# EAGLE library part 6082 (library tubes_pmillett)
Octal dual triode, base 8BD (6SN7, 6SL7, 6AS7, etc.)
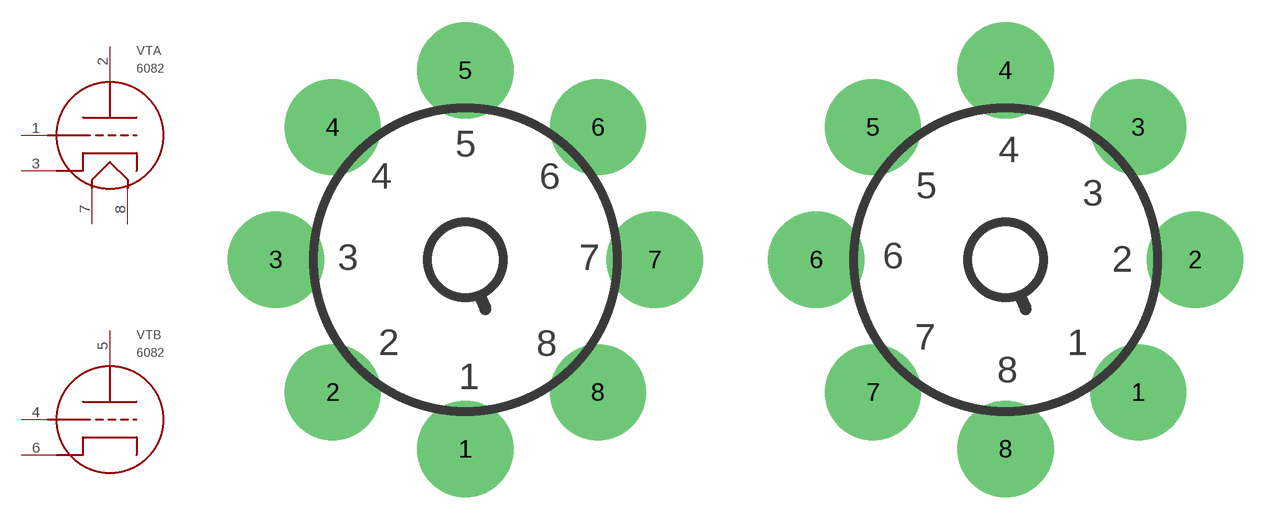
[diagram p42: symbol with the pads of OCTAL_BOTTOM; footprints OCTAL_BOTTOM, OCTAL]

Designator prefix VT; gates A=TRIODE_8A-1 B=TRIODE_8B-1

## 6082  [OCTAL_BOTTOM]
1  A:1G  pas
2  A:1A  pas
3  A:1K  pas
4  B:2G  pas
5  B:2A  pas
6  B:2K  pas
7  A:F1  pas
8  A:F2  pas

## 6082_TOP  [OCTAL]
1  B:2G  pas
2  B:2K  pas
3  B:2A  pas
4  A:1G  pas
5  A:1A  pas
6  A:1K  pas
7  A:F1  pas
8  A:F2  pas

## 6082_CHASSIS  [OCTAL_CHASSIS_ON_PCB]
1  B:2G  pas
2  B:2A  pas
3  B:2K  pas
4  A:1G  pas
5  A:1A  pas
6  A:1K  pas
7  A:F1  pas
8  A:F2  pas

## 6082_BIG  [OCTAL_CHASSIS_PCB2]
Pads as for OCTAL_CHASSIS_ON_PCB

## Footprint OCTAL_BOTTOM (pad centres in mm)
TUBE SOCKET, OCTAL, PCB, BOTTOM SIDE
drill 2.54 pad 6.452: 1 0,-12.7; 2 -8.89,-8.89; 3 -12.7,0; 4 -8.89,8.89; 5 0,12.7; 6 8.89,8.89; 7 12.7,0; 8 8.89,-8.89

## Footprint OCTAL (pad centres in mm)
OCTAL TUBE SOCKET, TOP MOUNT
drill 2.54 pad 6.452: 1 8.89,-8.89; 2 12.7,0; 3 8.89,8.89; 4 0,12.7; 5 -8.89,8.89; 6 -12.7,0; 7 -8.89,-8.89; 8 0,-12.7

## Footprint OCTAL_CHASSIS_ON_PCB (pad centres in mm)
OCTAL TUBE SOCKET, BOTTOM MOUNTED ON PCB
drill 1.422 pad 3.81: 1 17.78,-13.97; 2 7.62,-21.59; 3 -7.62,-21.59; 4 -17.78,-13.97; 5 -17.78,13.97; 6 -7.62,21.59; 7 7.62,21.59; 8 17.78,13.97
hole 3.81 at -19.05,0
hole 3.81 at 19.05,0

## Footprint OCTAL_CHASSIS_PCB2 (pad centres in mm)
drill 1.422 pad 3.81: 1 19.05,-21.59; 2 10.16,-26.67; 3 -10.16,-26.67; 4 -19.05,-21.59; 5 -19.05,21.59; 6 -10.16,26.67; 7 10.16,26.67; 8 19.05,21.59
hole 3.81 at -19.05,0
hole 3.81 at 19.05,0